# Altium schematic symbol library TH resistors.SchLib: 9 symbols
Pins are listed as number, name and electrical type; pins without a type are passive.

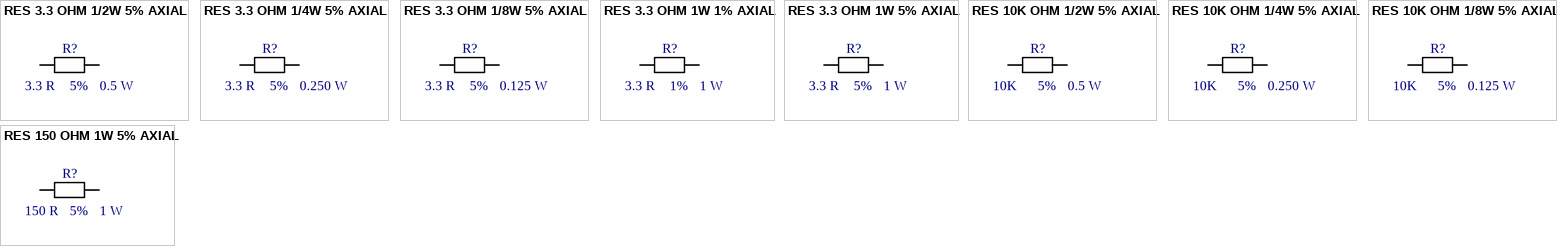
[diagram p0: symbols RES 3.3 OHM 1/2W 5% AXIAL to RES 150 OHM 1W 5% AXIAL]

## RES 3.3 OHM 1/2W 5% AXIAL
designator R?  value 3.3 R  Power dissipation max: 0.5 W  Accuracy: 5%  (hidden comment: RES 3.3 OHM 1/2W 5% AXIAL)
footprint RES_TH_AXIAL_0.500W_500mil
pins: 1, 2

## RES 3.3 OHM 1/4W 5% AXIAL
designator R?  value 3.3 R  Power dissipation max: 0.250 W  Accuracy: 5%  (hidden comment: RES 3.3 OHM 1/4W 5% AXIAL)
footprint RES_TH_AXIAL_0.250W_400mil
pins: 1, 2

## RES 3.3 OHM 1/8W 5% AXIAL
designator R?  value 3.3 R  Power dissipation max: 0.125 W  Accuracy: 5%  (hidden comment: RES 3.3 OHM 1/8W 5% AXIAL)
footprint RES_TH_AXIAL_0.125W_300mil
pins: 1, 2

## RES 3.3 OHM 1W 1% AXIAL
designator R?  value 3.3 R  Power dissipation max: 1 W  Accuracy: 1%  (hidden comment: RES 3.3 OHM 1W 1% AXIAL)
footprint RES_TH_AXIAL_1.000W_700mil
pins: 1, 2

## RES 3.3 OHM 1W 5% AXIAL
designator R?  value 3.3 R  Power dissipation max: 1 W  Accuracy: 5%  (hidden comment: RES 3.3 OHM 1W 5% AXIAL)
footprint RES_TH_AXIAL_1.000W_700mil
pins: 1, 2

## RES 10K OHM 1/2W 5% AXIAL
designator R?  value 10K  Power dissipation max: 0.5 W  Accuracy: 5%  (hidden comment: RES 10K OHM 1/2W 5% AXIAL)
footprint RES_TH_AXIAL_0.500W_500mil
pins: 1, 2

## RES 10K OHM 1/4W 5% AXIAL
designator R?  value 10K  Power dissipation max: 0.250 W  Accuracy: 5%  (hidden comment: RES 10K OHM 1/4W 5% AXIAL)
footprint RES_TH_AXIAL_0.250W_400mil
pins: 1, 2

## RES 10K OHM 1/8W 5% AXIAL
designator R?  value 10K  Power dissipation max: 0.125 W  Accuracy: 5%  (hidden comment: RES 10K OHM 1/8W 5% AXIAL)
footprint RES_TH_AXIAL_0.125W_300mil
pins: 1, 2

## RES 150 OHM 1W 5% AXIAL
designator R?  value 150 R  Power dissipation max: 1 W  Accuracy: 5%  (hidden comment: RES 150 OHM 1W 5% AXIAL)
footprint RES_TH_AXIAL_1.000W_700mil
pins: 1, 2